# EAGLE library part 46817-1002 (library 46817-1002)
MOLEX - 46817-1002 - CONNECTOR, HEADER, 2POS, 1ROW, 3.86MM Source: Datasheet <https://componentsearchengine.com/Datasheets/1/46817-1002.pdf>
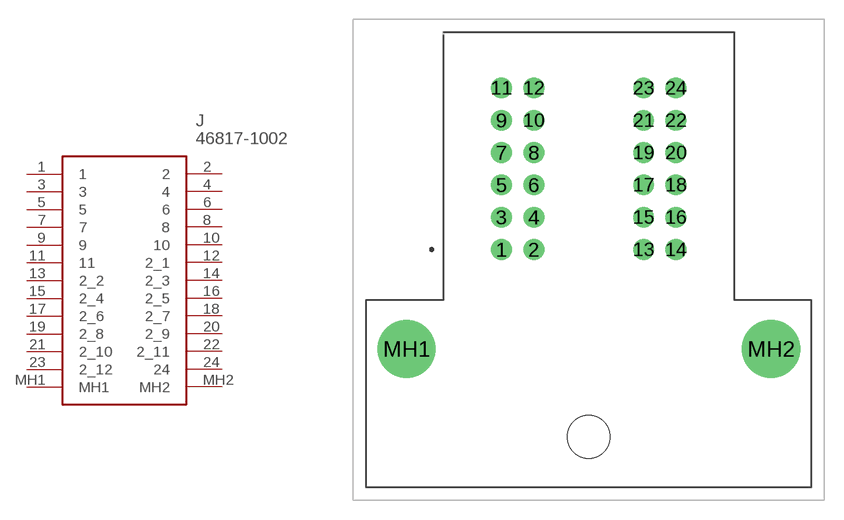
[diagram p0: symbol with the pads of 468171002; footprint 468171002]

Designator prefix J

## 46817-1002 (Description: MOLEX - 46817-1002 - CONNECTOR, HEADER, 2POS, 1ROW, 3.86MM; Height: 27.43mm; Manufacturer_Name: Molex; Manufacturer_Part_Number: 46817-1002; Mouser_Part_Number: 538-46817-1002; Mouser_Price-Stock: https://www.mouser.com/Search/Refine.aspx?Keyword=538-46817-1002)  [468171002]
1  1
2  2
3  3
4  4
5  5
6  6
7  7
8  8
9  9
10  10
11  11
12  2_1
13  2_2
14  2_3
15  2_4
16  2_5
17  2_6
18  2_7
19  2_8
20  2_9
21  2_10
22  2_11
23  2_12
24  24
MH1  MH1
MH2  MH2

## Footprint 468171002 (pad centres in mm)
46817-1002-2
drill 1.07 pad 1.605: 1 0,0; 2 2.5,0; 3 0,2.5; 4 2.5,2.5; 5 0,5; 6 2.5,5; 7 0,7.5; 8 2.5,7.5; 9 0,10; 10 2.5,10; 11 0,12.5; 12 2.5,12.5; 13 11,0; 14 13.5,0; 15 11,2.5; 16 13.5,2.5; 17 11,5; 18 13.5,5; 19 11,7.5; 20 13.5,7.5; 21 11,10; 22 13.5,10; 23 11,12.5; 24 13.5,12.5
drill 3 pad 4.5: MH1 -7.35,-7.7; MH2 20.85,-7.7
hole 3.3 at 6.75,-14.5